# Altium footprint library L23.PcbLib: 56 footprints (part 3 of 4)
Each footprint in its own frame and in the unit in brackets; x right, y up, seen from the top. Pads: shape width x height; smd on the part's side, far side on the other; paste and mask are expansions set on the pad; w line width, h text height; cw(c..) or ccw(c..) is an arc to the next point about the centre after c.
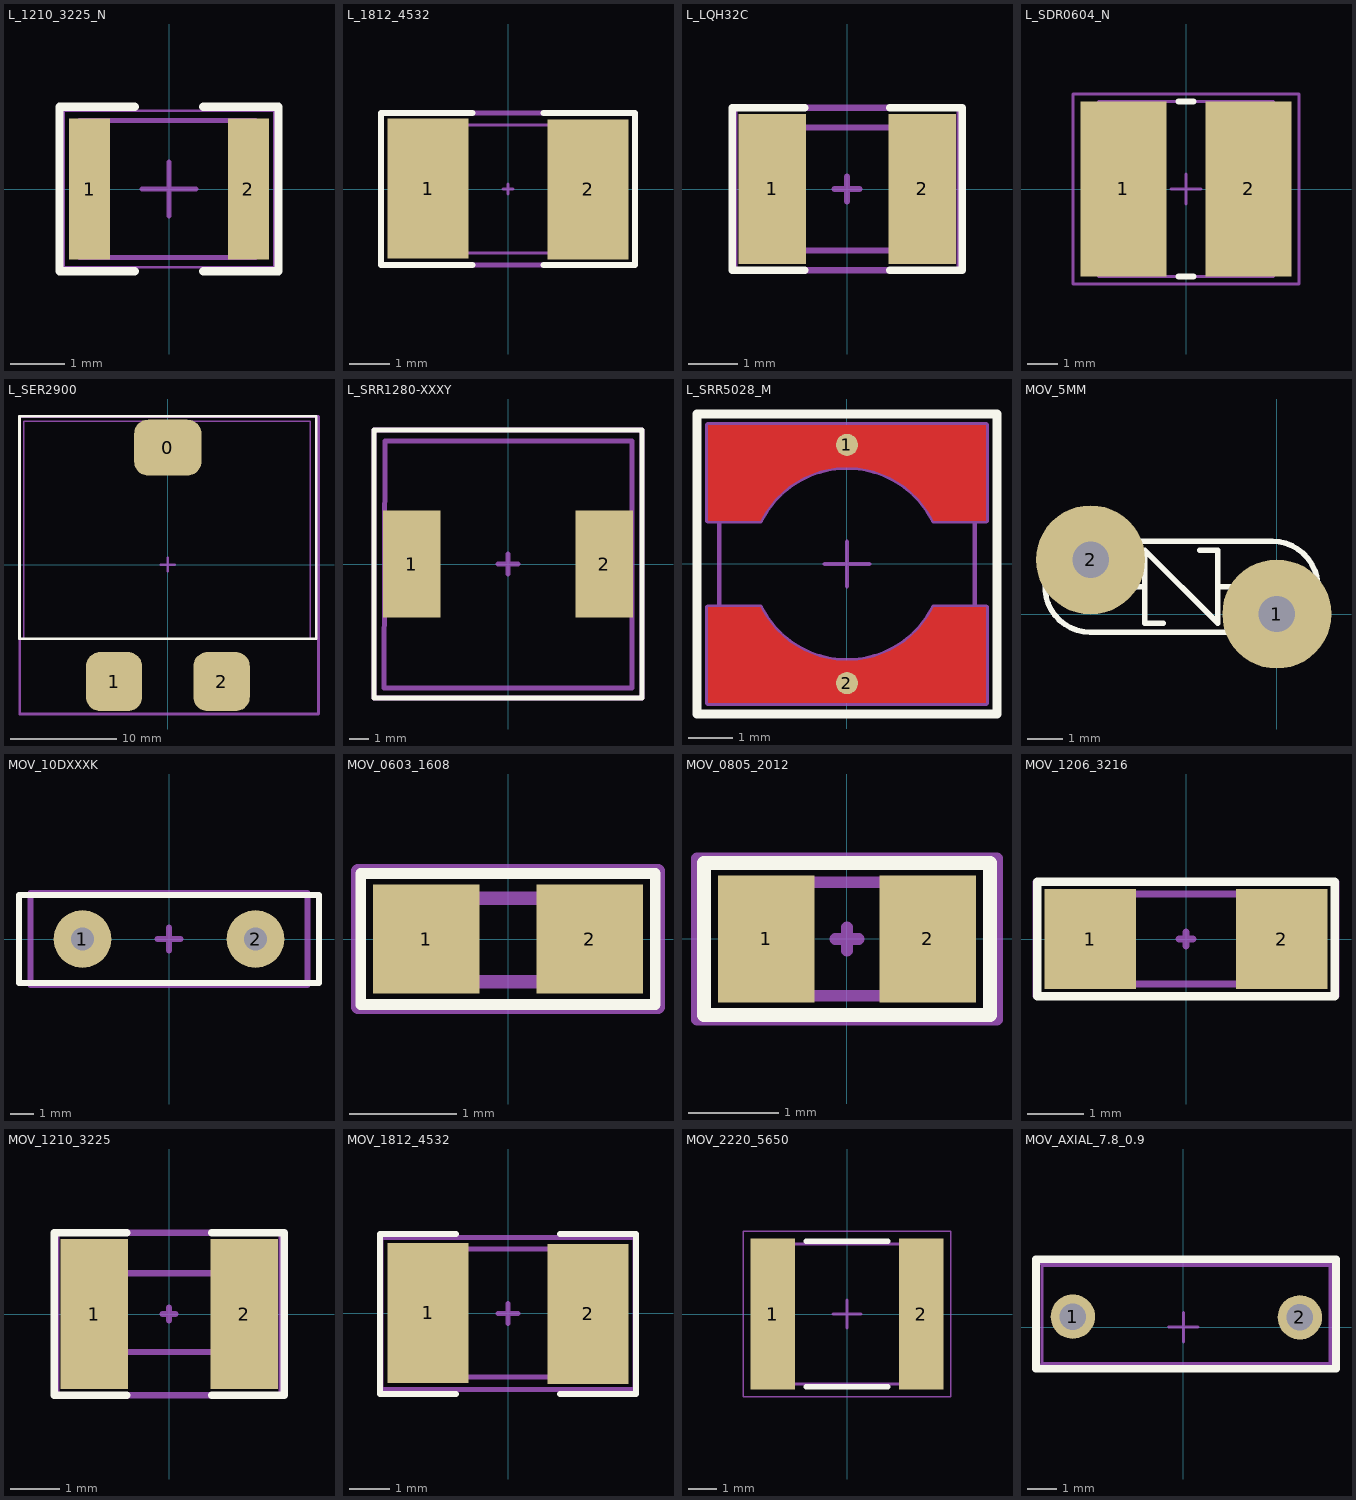
[diagram p2: the footprints below, top view; thin cyan lines are the x and y axes]

## L_1210_3225_N [mm] "Chip Inductor, 2-Leads, Body 3,20x2,50mm, IPC High Density"
height 2.4
pads (2):
  rect 0.76x2.62 smd: 1(-1.47,0) 2(1.47,0)
Top Overlay:
  lines w0.15: -0.635,-1.524 -2.032,-1.524 -2.032,1.524 -0.635,1.524 ; 0.635,-1.524 2.032,-1.524 2.032,1.524 0.635,1.524
Mechanical 13:
  lines w0.1: -1.651,-1.27 -1.651,1.27 1.6,1.27 1.6,-1.27 -1.651,-1.27
Mechanical 15:
  lines w0.05: -1.95,-1.45 -1.95,1.45 1.95,1.45 1.95,-1.45 -1.95,-1.45
  lines w0.1: -0.5,0 0.5,0 ; 0,-0.5 0,0.5
Mechanical 17:
  text "'.Designator'" at -1.524,-0.635 h0.38
Mechanical 19:
  text "'.Comment'" at -1.524,-0.635 h0.38
3D body "User Library-3225.STEP": height 1.9, standoff 0, extent -1.6,-1.25 1.6,1.25

## L_1812_4532 [mm]
pads (2):
  rect 2.032x3.5 smd: 1(-2,0.012) 2(2,-0.012)
Top Overlay:
  lines w0.15: -0.889,-1.905 -3.175,-1.905 -3.175,1.905 -0.889,1.905 ; 0.889,-1.905 3.175,-1.905 3.175,1.905 0.889,1.905
Mechanical 13:
  lines w0.076: -2.25,-1.6 -2.25,1.6 2.25,1.6 2.25,-1.6 -2.25,-1.6
Mechanical 15:
  lines w0.076: -0.127,0 0.127,0 ; 0,-0.127 0,0.127
  lines w0.127: -3.175,-1.905 -3.175,1.905 3.175,1.905 3.175,-1.905 -3.175,-1.905
Mechanical 17:
  text "'.Designator'" at -2.413,-0.508 h0.38
Mechanical 19:
  text "'.Comment'" at -2.413,-0.508 h0.38
3D body "User Library-Chip Inductor 1812.step": height 1.75, standoff 0, extent -2.25,-1.6 2.25,1.6

## L_LQH32C [mil]
pads (2):
  rect 54x120 smd: 1(-60,0) 2(60,0)
Top Overlay:
  lines w6: -34,-65 -92,-65 -92,65 -34,65 ; 34,-65 92,-65 92,65 34,65
Mechanical 13:
  lines w5: -63.93,-49.21 62.05,-49.21 62.05,49.22 -63.93,49.22 -63.93,-49.21
Mechanical 15:
  lines w5: -10,0 10,0 ; 0,-10 0,10 ; -90,-65 90,-65 90,65 -90,65 -90,-65
Mechanical 17:
  text "'.Designator'" at -70,-40 h15
Mechanical 19:
  text "'.Comment'" at -70,-40 h15
3D body "User Library-LQH32PN_sw.step": height 61.02, standoff 0, extent -63.93,-49.21 62.05,49.22

## L_SDR0604_N [mm] "Precision Wire Wound Inductor, 2-Leads, Body 5,75x5,75mm, IPC Medium Density"
height 4.8
pads (2):
  rect 2.85x5.8 smd: 1(-2.075,0) 2(2.075,0)
Top Overlay:
  lines w0.2: -0.25,-2.9 0.25,-2.9 ; -0.25,2.9 0.25,2.9
Mechanical 13:
  lines w0.1: -2.9,-2.9 -2.9,2.9 2.9,2.9 2.9,-2.9 -2.9,-2.9
Mechanical 15:
  lines w0.1: -0.5,0 0.5,0 ; 0,-0.5 0,0.5 ; -3.75,-3.15 -3.75,3.15 3.75,3.15 3.75,-3.15 -3.75,-3.15
Mechanical 17:
  text "'.Designator'" at -3.048,-2.667 h0.38
Mechanical 19:
  text "'.Comment'" at -3.048,-2.667 h0.38
3D body "User Library-SDR0604.step": height 4.55, standoff 0, extent -2.754,-2.8 2.754,2.8

## L_SER2900 [mm]
pads (3):
  rrect50% 6.35x5.28 smd: 0(0,11.038)
  rrect50% 5.3x5.59 smd: 1(-5.075,-11.037)
  rrect50% 5.33x5.59 smd: 2(5.075,-11.037)
Top Overlay:
  lines w0.254: -14,-7 -14,14 14,14 14,-7 -14,-7
Mechanical 13:
  lines w0.127: -13.589,-6.985 13.45,-6.985 13.45,13.524 -13.589,13.524 -13.589,-6.985
Mechanical 15:
  lines w0.254: -0.635,0 0.635,0 ; 0,-0.635 0,0.635 ; -13.97,-14.097 14.224,-14.097 14.224,13.97 -13.97,13.97 -13.97,-14.097
Mechanical 17:
  text "'.Designator'" at -14.097,-6.223 h1.27
Mechanical 19:
  text "'.Comment'" at -14.097,-6.223 h1.27
3D body "User Library-SER2918.STEP": height 17.2, standoff 0, extent -13.55,-13.183 13.45,13.524

## L_SRR1280-XXXY [mm]
pads (2):
  rect 2.9x5.4 smd: 1(-4.85,0) 2(4.85,0)
Top Overlay:
  lines w0.254: -6.75,-6.75 -6.75,6.75 6.75,6.75 6.75,3.25 6.75,-6.75 -6.75,-6.75
Mechanical 13:
  lines w0.254: -6.25,-6.25 6.25,-6.25 6.25,6.2 -6.2,6.2 -6.25,-6.25
Mechanical 15:
  lines w0.254: -0.5,0 0.5,0 ; 0,-0.5 0,0.5 ; -6.75,-6.75 6.75,-6.75 6.75,6.75 -6.75,6.75 -6.75,-6.75
Mechanical 17:
  text "'.Designator'" at -4,-4.5 h0.64
Mechanical 19:
  text "'.Comment'" at -2.75,1.75 h0.64
3D body "User Library-Inductor SRR1280 Series.step": height 7.51, standoff 0, extent -6.25,-6.25 6.25,6.25

## L_SRR5028_M [mm] "Precision Wire Wound"
height 4.8
pads (2):
  round 0.5 smd: 1(0,2.7) 2(0,-2.7)
Top Layer:
  region: -3.15,0.984 -1.968,0.984 -1.869,1.161 -1.624,1.484 -1.324,1.757 -0.979,1.97 -0.601,2.116 -0.203,2.191 0.203,2.191 0.601,2.116 0.979,1.97 1.324,1.757 1.624,1.484 1.869,1.161 1.968,0.984 3.15,0.984 3.15,3.15 -3.15,3.15
  region: -3.15,-3.15 3.15,-3.15 3.15,-0.984 1.968,-0.984 1.869,-1.161 1.624,-1.484 1.324,-1.757 0.979,-1.97 0.601,-2.116 0.203,-2.191 -0.203,-2.191 -0.601,-2.116 -0.979,-1.97 -1.324,-1.757 -1.624,-1.484 -1.869,-1.161 -1.968,-0.984 -3.15,-0.984
Top Overlay:
  lines w0.203: -3.4,-3.4 -3.4,1.7 -3.4,3.4 3.4,3.4 3.4,-3.4 -3.4,-3.4
Mechanical 13:
  lines w0.1: -2.9,-2.9 2.9,-2.9 2.9,2.9 -2.9,2.9 -2.9,-2.9
Mechanical 15:
  lines w0.1: -0.5,0 0.5,0 ; 0,-0.5 0,0.5 ; -3.4,-3.4 3.4,-3.4 3.4,3.4 -3.4,3.4 -3.4,-3.4
Mechanical 17:
  text "'.Designator'" at -1.448,-1.067 h0.38
Mechanical 19:
  text "'.Comment'" at -1.948,-1.167 h0.38
Mechanical 31:
  lines w0.127: -3.15,-3.15 3.15,-3.15 3.15,-0.984 1.968,-0.984 cw(c0,0) -1.968,-0.984 -3.15,-0.984 -3.15,-3.15 ; -3.15,0.984 -1.968,0.984 cw(c0,0) 1.968,0.984 3.15,0.984 3.15,3.15 -3.15,3.15 -3.15,0.984
3D body "srr5028.stp": height 2.8, standoff 0, extent -2.9,-2.9 2.9,2.9

## MOV_5MM [mil]
pads (2):
  round 120 hole 40: 1(0,0) 2(-204.8,59.53)
Top Overlay:
  lines w6: -205,30 -145,30 ; -125,-10 -145,-10 -145,70 -65,-10 -65,70 -85,70 ; -65,30 -5,30 ; -205,-20 cw(c-205,30) -205,80 -5,80 cw(c-5,30) -5,-20 -205,-20
3D body "User Library-Warystor_5mm.step": height 393.7, standoff -101.06, extent -268.49,-59.54 61.6,127.04

## MOV_10DXXXK [mm]
pads (2):
  round 2.5 hole 1: 1(-3.75,0) 2(3.75,0)
Top Overlay:
  lines w0.254: -6.5,-1.905 -6.5,1.905 6.5,1.905 6.5,-1.905 -6.5,-1.905
Mechanical 15:
  lines w0.254: -0.5,0 0.5,0 ; 0,-0.5 0,0.5 ; -6,-2 -6,2 6,2 6,-2 -6,-2
Mechanical 17:
  text "'.Designator'" at -2,0 h0.64
Mechanical 19:
  text "'.Comment'" at -2,0 h0.64
  text "'.Designator'" at -2,0 h0.64
3D body "User Library-S14K25 MOV.step": height 18.5, standoff -3, extent -8.021,-3.728 8.021,3.728

## MOV_0603_1608 [mil]
pads (2):
  rect 39x40 smd: 1(-30,0) 2(30,0)
Top Overlay:
  lines w3.94: -54,-24.12 -54,24 54,24 54,-24 -54,-24
Mechanical 13:
  lines w5: -31.49,-15.74 -31.49,15 31.5,15 31.5,-15.74 -31.49,-15.74
Mechanical 15:
  lines w5: -55,-25 -55,25 55,25 55,-25 -55,-25
Mechanical 17:
  text "'.Designator'" at -35,-10 h10
Mechanical 19:
  text "'.Comment'" at -35,-10 h10
3D body "User Library-V0603HD.STEP": height 34.92, standoff -0.51, extent -31.49,-15.74 31.5,15.75

## MOV_0805_2012 [mil]
pads (2):
  rect 42x55 smd: 1(-35,0) 2(35,0)
Top Overlay:
  lines w6: -62,-33 62,-33 62,33 -62,33 -62,-33
Mechanical 13:
  lines w5: -35.99,-24.6 -35.99,24.61 42.75,24.61 42.75,-24.6 -35.99,-24.6
Mechanical 15:
  lines w5: -5,0 5,0 ; 0,-5 0,5 ; -65,-35 -65,35 65,35 65,-35 -65,-35
Mechanical 17:
  text "'.Designator'" at -40,-15 h10
Mechanical 19:
  text "'.Comment'" at -40,-15 h10
3D body "User Library-V0805HD.STEP": height 46.73, standoff -0.51, extent -35.99,-24.6 42.75,24.61

## MOV_1206_3216 [mil]
pads (2):
  rect 64x70 smd: 1(-67,0) 2(67,0)
Top Overlay:
  lines w6: -104,-40 104,-40 104,40 -35,40 -104,40 -104,-40
Mechanical 13:
  lines w5: -60.9,-31.49 -60.9,31.5 65.09,31.5 65.09,-31.49 -60.9,-31.49
Mechanical 15:
  lines w5: -5,0 5,0 ; 0,-5 0,5 ; -105,-40 -105,40 105,40 105,-40 -105,-40
Mechanical 17:
  text "'.Designator'" at -65,-25 h10
Mechanical 19:
  text "'.Comment'" at -65,-25 h10
3D body "User Library-V1206HD.STEP": height 58.54, standoff -0.51, extent -60.9,-31.49 65.09,31.5

## MOV_1210_3225 [mil]
pads (2):
  rect 54x120 smd: 1(-60,0) 2(60,0)
Top Overlay:
  lines w6: -34,-65 -92,-65 -92,65 -34,65 ; 34,-65 92,-65 92,65 34,65
Mechanical 13:
  lines w5: -62.99,-30.49 -62.99,32.5 62.99,32.5 62.99,-30.49 -62.99,-30.49
Mechanical 15:
  lines w5: -5,0 5,0 ; 0,-5 0,5 ; -90,-65 -90,65 90,65 90,-65 -90,-65
Mechanical 17:
  text "'.Designator'" at -70,-20 h15
Mechanical 19:
  text "'.Comment'" at -70,-20 h15
3D body "User Library-V1206HD.STEP": height 59.06, standoff 0, extent -62.99,-30.49 62.99,32.5

## MOV_1812_4532 [mm]
pads (2):
  rect 2.032x3.5 smd: 1(-2,0.012) 2(2,-0.012)
Top Overlay:
  lines w0.152: -1.3,1.987 -3.205,1.987 -3.2,-2.013 -1.295,-2.013 ; 1.295,-2.013 3.2,-2.013 3.2,1.987 1.295,1.987
Mechanical 13:
  lines w0.127: -2.2,-1.587 -2.2,1.613 2.3,1.613 2.3,-1.587 -2.2,-1.587
Mechanical 15:
  lines w0.127: -0.254,0 0.254,0 ; 0,-0.254 0,-0.127 0,0.254 ; -3.175,-1.905 -3.175,1.905 3.175,1.905 3.175,-1.905 -3.175,-1.905
Mechanical 17:
  text "'.Designator'" at -2.286,-1.397 h0.38
Mechanical 19:
  text "'.Comment'" at -2.286,-1.397 h0.38
3D body "User Library-V1812HD.STEP": height 1.99, standoff -0.01, extent -2.2,-1.587 2.3,1.613

## MOV_2220_5650 [mm] "Chip MOV, 2-Leads, Body 5,60x5,00mm, IPC Medium Density"
height 1.9
pads (2):
  rect 1.6x5.4 smd: 1(-2.65,0) 2(2.65,0)
Top Overlay:
  lines w0.2: -1.45,-2.6 1.45,-2.6 ; -1.45,2.6 1.45,2.6
Mechanical 13:
  lines w0.1: -2.9,-2.5 2.9,-2.5 2.9,2.5 -2.9,2.5 -2.9,-2.5
Mechanical 15:
  lines w0.05: -3.7,-2.95 3.7,-2.95 3.7,2.95 -3.7,2.95 -3.7,-2.95
  lines w0.1: -0.5,0 0.5,0 ; 0,-0.5 0,0.5
Mechanical 17:
  text "'.Designator'" at -1.5,0 h0.64
Mechanical 19:
  text "'.Comment'" at -1.5,-1 h0.64
3D body "User Library-V2220HD.STEP": height 2.5, standoff 0, extent -2.85,-2.5 2.85,2.5

## MOV_AXIAL_7.8_0.9 [mm]
pads (2):
  round 1.5 hole 0.9: 1(-3.734,0.356) 2(3.937,0.33)
Top Overlay:
  lines w0.254: -4.978,-1.397 -4.978,2.286 5.156,2.286 5.156,-1.397 -4.978,-1.397
Mechanical 13:
  lines w0.1: -4.775,-1.219 -4.775,2.083 4.953,2.083 4.953,-1.219 -4.775,-1.219
Mechanical 15:
  lines w0.1: -0.5,0 0.5,0 ; 0,-0.5 0,0.5
  lines w0.127: -4.902,-1.295 5.055,-1.295 5.055,2.159 -4.902,2.159 -4.902,-0.664 -4.902,-1.295
Mechanical 17:
  text "'.Designator'" at -3.683,-0.127 h0.64
Mechanical 19:
  text "'.Comment'" at -2.413,0.508 h0.64
3D body "User Library-S14K25 MOV.STEP": height 18.5, standoff -3, extent -7.871,-3.485 8.176,4.094